# Altium schematic symbol library Bran PinBoard.SCHLIB: 24 symbols
Pins are listed as number, name and electrical type; pins without a type are passive.

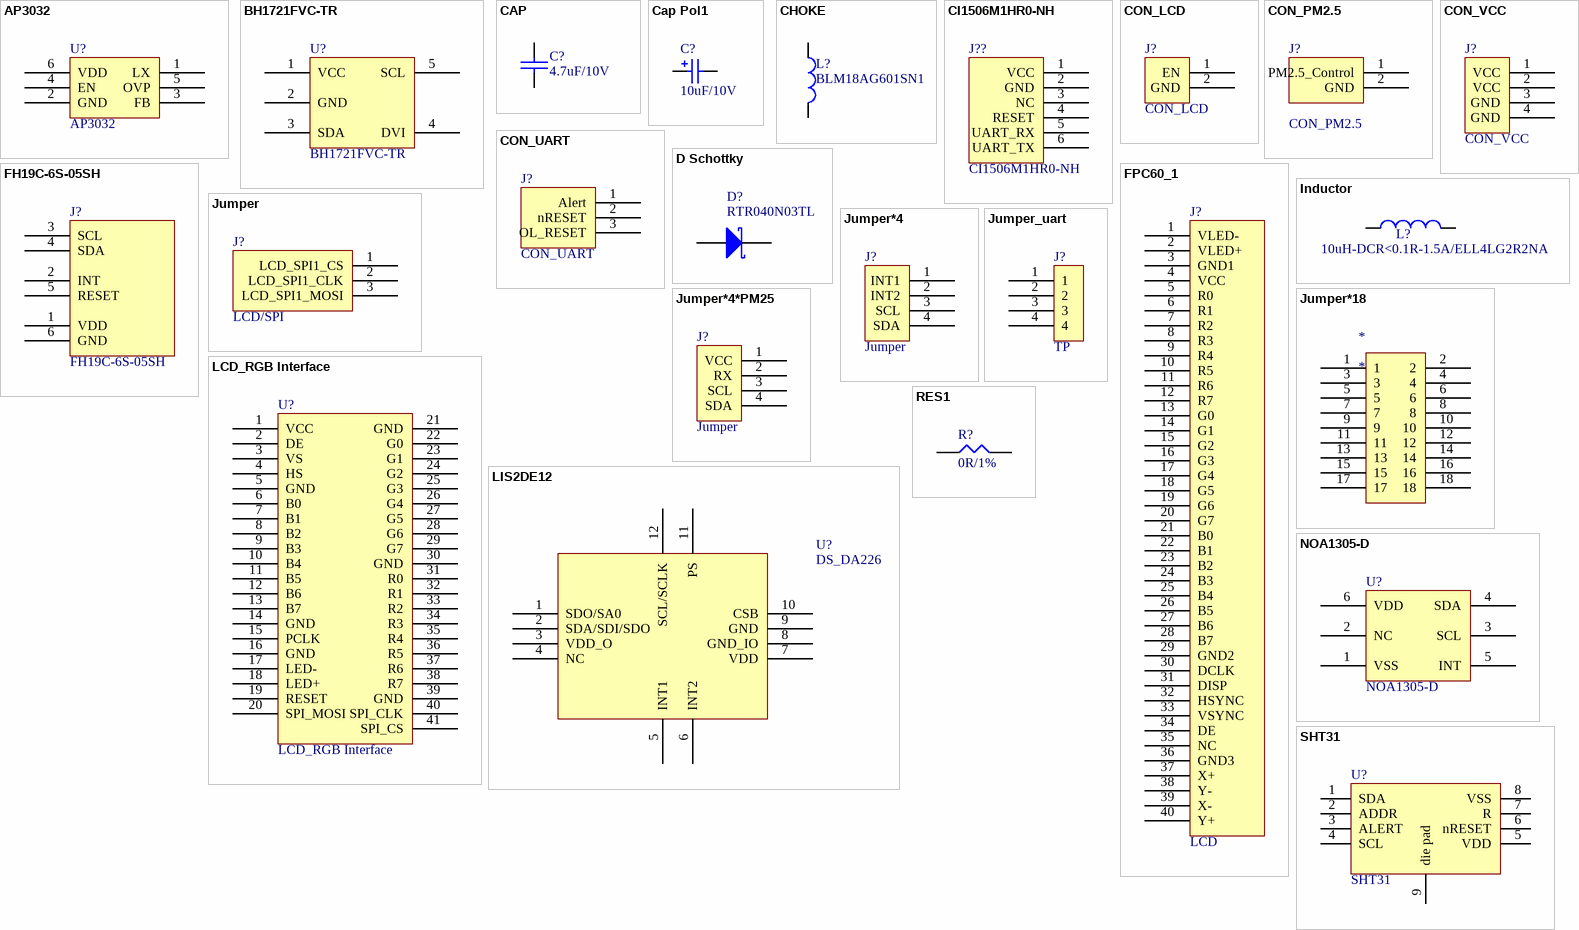
[diagram p0: symbols AP3032 to SHT31]

## AP3032
designator U?
Manuf_Part_1: STLD40DPUR; Ordered by: ST; Ref St: 9176009; ECCN_US/EU: EAR99/NEC; Manuf_1: ST
footprint QFN8 (Footprint not found)
footprint QFNT8
footprint SOT23-6-L
footprint SON8_0R65_3X3_ST (Footprint not found)
pins: 1 LX, 2 GND, 3 FB, 4 EN, 5 OVP, 6 VDD

## BH1721FVC-TR
designator U?
footprint WSOF5 (SOT23, 5-Leads, Body 1.6x1.6mm (max), Pitch 0.50mm, IPC Medium Density)
pins: 1 VCC, 2 GND, 3 SDA, 4 DVI, 5 SCL

## CAP
designator C?, comment 4.7uF/10V
厂家：Murata，型号：GRM155R71A104KA01D
footprint 0603C
footprint 0402C
footprint 0603C
footprint 0402C
pins: 1, 2
2 alternate drawings of the same symbol

## Cap Pol1
designator C?, comment 10uF/10V
Polarized Capacitor (Radial); Value: 10uF; Ordered by: Subcon; Published: 8-Jun-2000; Revision: July-2002: Re-released for DXP Platform.; Publisher: Altium Limited
simulation model CAP (Capacitor)
signal-integrity model C200M
footprint 3528 (Footprint not found)
footprint TAN-B
footprint 0603C
pins: 1, 2

## CHOKE
designator L?, comment BLM18AG601SN1
厂家：MURATA，型号：BLM18AG601SN1
footprint SM/L_0805_L
footprint SM/R_1206
footprint 1206
footprint 0805
footprint 0805
footprint 2520
footprint 2520 TOKO
footprint 0603R
pins: 1, 2

## CI1506M1HR0-NH
designator J??
厂家：瀚荃股份，型号：CI1506M1HR0-NH
pins: 1 VCC, 2 GND, 3 NC, 4 RESET, 5 UART_RX, 6 UART_TX

## CON_LCD
designator J?
footprint 2.54*2
pins: 1 EN, 2 GND

## CON_PM2.5
designator J?
footprint 2.54*3
pins: 1 PM2.5_Control, 2 GND

## CON_UART
designator J?
footprint 2.54*3
pins: 1 Alert, 2 nRESET, 3 OL_RESET

## CON_VCC
designator J?
footprint 2.54*4
pins: 1 VCC, 2 VCC, 3 GND, 4 GND

## D Schottky
designator D?, comment RTR040N03TL
Schottky Diode; Manuf_Part_1: STPS1L40M; Code - JEDEC: DO-214-AA; Ordered by: ST; Ref St: 9151085; ECCN_US/EU: EAR99/NEC; Published: 8-Jun-2000; Revision: July-2002: Re-released for DXP Platform.; Publisher: Altium Limited; Manuf_1: ST
footprint 1R1C (Footprint not found)
footprint DO216AA
footprint TUMD2M (厂家：ROHM，型号：RB160VAM-40)
pins: 1 A, 2 K

## FH19C-6S-05SH
designator J?
ZIF connector placed bottom side; Manuf_1: ATOM; Manuf_2: Hirose; Manuf_Part_1: FPC05006-09200; Ordered by: Subcon; Silkscreen: TS; Manuf_Part_2: FH19C-6S-05SH
footprint FH19C-6S-05SH (Footprint not found)
footprint FPC_CON6-BACK-MOLEX (厂家：Molex，型号：5034800600_sd)
footprint FPC_CON8-BACK-MOLEX (厂家：Molex，型号：5034800800_sd)
footprint FPC_CON6-BACK-MOLEX (厂家：Molex，型号：5034800600_sd)
pins: 1 VDD, 2 INT, 3 SCL, 4 SDA, 5 RESET, 6 GND

## FPC60_1
designator J?, comment LCD
footprint 2.54*40
pins: 1 VLED-, 2 VLED+, 3 GND1, 4 VCC, 5 R0, 6 R1, 7 R2, 8 R3, 9 R4, 10 R5, 11 R6, 12 R7, 13 G0, 14 G1, 15 G2, 16 G3, 17 G4, 18 G5, 19 G6, 20 G7, 21 B0, 22 B1, 23 B2, 24 B3, 25 B4, 26 B5, 27 B6, 28 B7, 29 GND2, 30 DCLK, 31 DISP, 32 HSYNC, 33 VSYNC, 34 DE, 35 NC, 36 GND3, 37 X+, 38 Y-, 39 X-, 40 Y+

## Inductor
designator L?, comment 10uH-DCR<0.1R-1.5A/ELL4LG2R2NA
Inductor; Value: 100uH; Ordered by: Subcon; Published: 8-Jun-2000; Revision: July-2002: Re-released for DXP Platform.; Publisher: Altium Limited
footprint 3225 (Footprint not found)
footprint 3225L
footprint LSM2_3R2X2R5_H1R55 (Footprint not found)
footprint 1210L (Footprint not found)
footprint INDM4040X18N (Molded Inductor, 2-Leads, Body 4.0x4.0mm, IPC Medium Density)
pins: 1, 2

## Jumper
designator J?, comment LCD/SPI
Jumper
footprint 2.54*3
pins: 1 LCD_SPI1_CS, 2 LCD_SPI1_CLK, 3 LCD_SPI1_MOSI

## Jumper*4
designator J?, comment Jumper
footprint 2.54*4
pins: 1 INT1, 2 INT2, 3 SCL, 4 SDA

## Jumper*4*PM25
designator J?, comment Jumper
footprint 2.54*4
pins: 1 VCC, 2 RX, 3 SCL, 4 SDA

## Jumper*18
designator *
pins: 1, 2, 3, 4, 5, 6, 7, 8, 9, 10, 11, 12, 13, 14, 15, 16, 17, 18

## Jumper_uart
designator J?, comment TP
Jumper
footprint 2.54*8
pins: 1, 2, 3, 4

## LCD_RGB Interface
designator U?
footprint FPC_CON41-0.3MM-HRS (厂家：HRS，型号：FH26W-41S-0.3SHW（05）)
footprint FPC_CON41-0.3MM-HRS (厂家：HRS，型号：FH26W-41S-0.3SHW（05）)
pins: 1 VCC, 2 DE, 3 VS, 4 HS, 5 GND, 6 B0, 7 B1, 8 B2, 9 B3, 10 B4, 11 B5, 12 B6, 13 B7, 14 GND, 15 PCLK, 16 GND, 17 LED-, 18 LED+, 19 RESET, 20 SPI_MOSI, 21 GND, 22 G0, 23 G1, 24 G2, 25 G3, 26 G4, 27 G5, 28 G6, 29 G7, 30 GND, 31 R0, 32 R1, 33 R2, 34 R3, 35 R4, 36 R5, 37 R6, 38 R7, 39 GND, 40 SPI_CLK, 41 SPI_CS

## LIS2DE12
designator U?, comment DS_DA226
厂家：ST，型号：LIS2DH12
footprint LGA-12
pins: 1 SDO/SA0, 2 SDA/SDI/SDO, 3 VDD_O, 4 NC, 5 INT1, 6 INT2, 7 VDD, 8 GND_IO, 9 GND, 10 CSB, 11 PS, 12 SCL/SCLK

## NOA1305-D
designator U?
footprint WSOF5 (SOT23, 5-Leads, Body 1.6x1.6mm (max), Pitch 0.50mm, IPC Medium Density)
pins: 1 VSS, 2 NC, 3 SCL, 4 SDA, 5 INT, 6 VDD

## RES1
designator R?, comment 0R/1%
厂家：Yageo，型号：RC0402FR-0710KL
footprint 0402R
footprint 0603C
footprint 0603R
footprint 0402R
footprint 0603R
pins: 1, 2
2 alternate drawings of the same symbol

## SHT31
designator U?
厂家：盛思睿，型号：SHT31
footprint DFN3*3
footprint DFN (QFN, 8-Leads, Body 2.6x2.6mm (max), Pitch 0.50mm, IPC Medium Density)
pins: 1 SDA, 2 ADDR, 3 ALERT, 4 SCL, 5 VDD, 6 nRESET, 7 R, 8 VSS, 9 die pad